# Altium schematic symbol library Schlib1.SchLib: 14 symbols
Pins are listed as number, name and electrical type; pins without a type are passive.

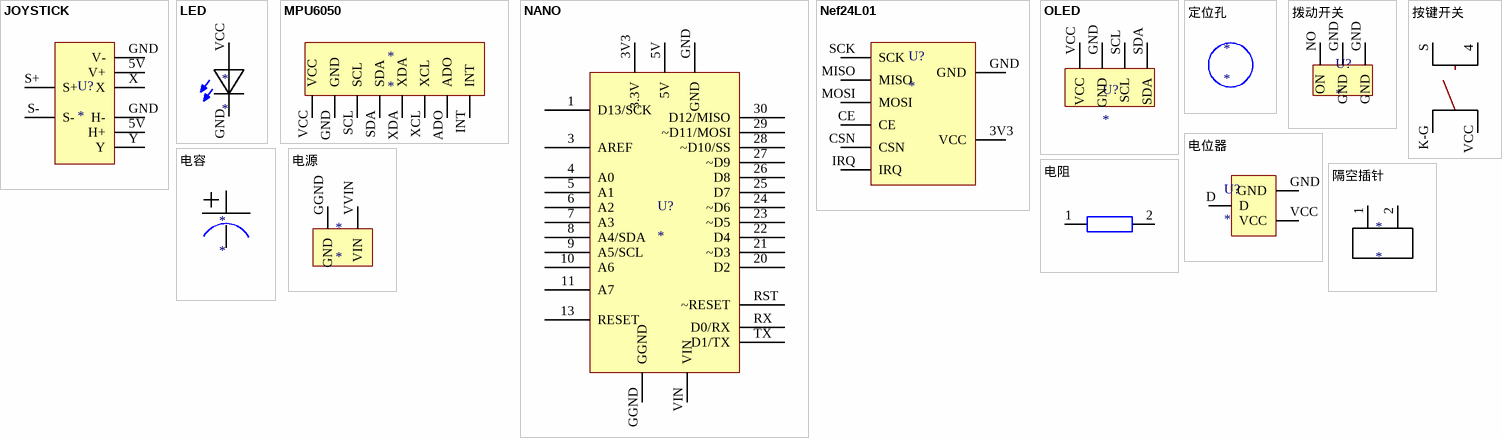
[diagram p0: symbols JOYSTICK to 隔空插针]

## JOYSTICK
designator U?
PS摇杆
pins: 5V H+, 5V V+, GND H-, GND V-, S+, S-, X, Y

## LED
designator *
pins: GND 2, VCC 1

## MPU6050
designator *
加速度计
pins: ADO, GND, INT, SCL, SDA, VCC, XCL, XDA

## NANO
designator U?
Arduino
pins: 1 D13/SCK, 3 AREF, 3V3 3.3V, 4 A0, 5 A1, 5V, 6 A2, 7 A3, 8 A4/SDA, 9 A5/SCL, 10 A6, 11 A7, 13 RESET, 20 D2, 21 ~D3, 22 D4, 23 ~D5, 24 ~D6, 25 D7, 26 D8, 27 ~D9, 28 ~D10/SS, 29 ~D11/MOSI, 30 D12/MISO, GGND, GND, RST ~RESET, RX D0/RX, TX D1/TX, VIN

## Nef24L01
designator U?
board
pins: 3V3 VCC, CE, CSN, GND, IRQ, MISO, MOSI, SCK

## OLED
designator U?
0.96
pins: GND, SCL, SDA, VCC

## 定位孔
designator *

## 拨动开关
designator U?
pins: GND, GND, NO ON

## 按键开关
designator ?
自复位
pins: 4 2, K-G 1, S 2, VCC 1

## 电位器
designator U?
S/V/G
pins: D, GND, VCC

## 电容
designator *
pins: 3V3 +, GND 2

## 电源
designator *
pins: GGND GND, VVIN VIN

## 电阻
designator ?
pins: 1, 2

## 隔空插针
designator *
pins: 1, 2